# Altium integrated library kbjs-lib.IntLib: 7 symbols
Pins are listed as number, name and electrical type; pins without a type are passive.

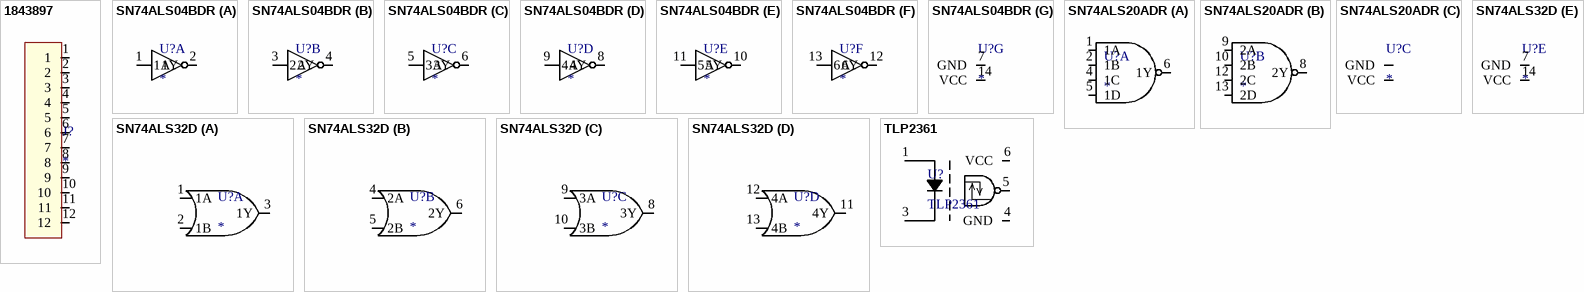
[diagram p0: symbols 1843897 to TLP2361]

## 1843897
designator J?
Feed-through header, 12POS, Combicon Series, Mates w/ 1847220
footprint KSMITH_LIB_1843897
pins: 1, 2, 3, 4, 5, 6, 7, 8, 9, 10, 11, 12

## SN74ALS04BDR
designator U?
Hex Inverter; Supplier 1: Digi-Key; Supplier Part Number 1: 296-1122-1-ND
footprint D14
part A pins: 1 1A, 2 1Y
part B pins: 3 2A, 4 2Y
part C pins: 5 3A, 6 3Y
part D pins: 8 4Y, 9 4A
part E pins: 10 5Y, 11 5A
part F pins: 12 6Y, 13 6A
part G pins: 7 GND, 14 VCC

## SN74ALS20ADR
designator U?
Dual 4-Input Positive-NAND Gates; Supplier 1: Digi-Key; Supplier Part Number 1: 296-5036-1-ND
footprint D14-M
footprint D14
part A pins: 1 1A, 2 1B, 4 1C, 5 1D, 6 1Y
part B pins: 8 2Y, 9 2A, 10 2B, 12 2C, 13 2D
part C pins: 7 GND (power), 14 VCC (power)

## SN74ALS32D
designator U?
Quadruple 2-Input Positive OR Gate; Supplier 1: Digi-Key; Supplier Part Number 1: 296-1127-5-ND
footprint D14
part A pins: 1 1A, 2 1B, 3 1Y
part B pins: 4 2A, 5 2B, 6 2Y
part C pins: 8 3Y, 9 3A, 10 3B
part D pins: 11 4Y, 12 4A, 13 4B
part E pins: 7 GND, 14 VCC

## TLP2361
designator U?
optocoupler, S06 package; Supplier 1: Digi-Key; Supplier 2: Digi-Key; Supplier Part Number 1: TLP2361(V4-TPLECT-ND; Supplier Part Number 2: TLP2361(V4E-ND
footprint 5pin SO6
pins: 1, 3, 4 GND (power), 5, 6 VCC (power)


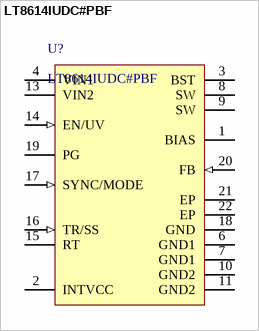
[diagram p1: symbol LT8614IUDC#PBF]

## LT8614IUDC#PBF
designator U?
4 A Synchronous Step-Down Silent Switcher with 2.5 uA Quiescent Current, 3.4 to 42 V, -40 to 125 degC, 18-Pin QFN (UDC), RoHS, Tube; Number of Outputs: 1; VIN Max: 42 V; VIN Min: 3.4 V; ComponentLink2Description: Datasheet; DatasheetVersion: Rev. B; ComponentLink3URL: http://cds.linear.com/docs/en/packaging/05081956_B_UDC18(AA).pdf; ComponentLink3Description: Package Specification; ComponentLink1URL: http://www.linear.com/; ComponentLink1Description: Manufacturer URL; ComponentLink2URL: http://cds.linear.com/docs/en/datasheet/8614fb.pdf; Temperature Min: -40 degC; Packing: Tube; PackageVersion: Rev. B; PartNumber: LT8614IUDC#PBF; PackageDescription: 18-Pin Quad Flat No-lead Package, Body 3 x 4 mm, Pitch 0.5 mm; Mounting Technology: Surface Mount; RoHS: TRUE; Temperature Max: 125 degC
footprint LT-UDC-18_V
pins: 1 BIAS (power) "The internal regulator will draw current from BIAS instead of VIN when BIAS is tied to a voltage higher than 3.1V. For output voltages of 3.3V and above this pin should be tied to VOUT. If this pin is tied to a supply other than VOUT use a 1ìF local bypass capacitor on this pin.", 2 INTVCC (power) "Internal 3.4V Regulator Bypass Pin. The internal power drivers and control circuits are powered from this voltage. INTVCC maximum output current is 20mA. Do not load the INTVCC pin with external circuitry. INTVCC current will be supplied from BIAS if BIAS > 3.1V, otherwise current will be drawn from VIN. Voltage on INTVCC will vary between 2.8V and 3.4V when BIAS is between 3.0V and 3.6V. Decouple this pin to power ground with at least a 1ìF low ESR ceramic capacitor placed close to the IC.", 3 BST "This pin is used to provide a drive voltage, higher than the input voltage, to the topside power switch. Place a 0.1uF boost capacitor as close as possible to the IC.", 4 VIN1 (power) "The LT8614 requires two 1uF small input bypass capacitors. One 1uF capacitor should be placed between VIN1 and GND1. A second 1uF capacitor should be placed between VIN2 and GND2. These capacitors must be placed as close as possible to the LT8614. A third larger capacitor of 2.2uF or more should be placed close to the LT8614 with the positive terminal connected to VIN1 and VIN2, and the negative terminal connected to ground. See applications section for sample layout.", 6 GND1 (power) "Power Switch Ground. These pins are the return path of the internal bottom side power switch and must be tied together. Place the negative terminal of the input capacitor as close to the GND1 pins as possible. Also be sure to tie GND1 to the ground plane. See the Applications Information section for sample layout.", 7 GND1 (power) "Power Switch Ground. These pins are the return path of the internal bottom side power switch and must be tied together. Place the negative terminal of the input capacitor as close to the GND1 pins as possible. Also be sure to tie GND1 to the ground plane. See the Applications Information section for sample layout.", 8 SW (power) "The SW pins are the outputs of the internal power switches. Tie these pins together and connect them to the inductor and boost capacitor. This node should be kept small on the PCB for good performance and low EMI.", 9 SW (power) "The SW pins are the outputs of the internal power switches. Tie these pins together and connect them to the inductor and boost capacitor. This node should be kept small on the PCB for good performance and low EMI.", 10 GND2 (power) "Power Switch Ground. These pins are the return path of the internal bottom side power switch and must be tied together. Place the negative terminal of the input capacitor as close to the GND2 pins as possible. Also be sure to tie GND2 to the ground plane. See the Applications Information section for sample layout.", 11 GND2 (power) "Power Switch Ground. These pins are the return path of the internal bottom side power switch and must be tied together. Place the negative terminal of the input capacitor as close to the GND2 pins as possible. Also be sure to tie GND2 to the ground plane. See the Applications Information section for sample layout.", 13 VIN2 (power) "The LT8614 requires two 1ìF small input bypass capacitors. One 1uF capacitor should be placed between VIN1 and GND1. A second 1uF capacitor should be placed between VIN2 and GND2. These capacitors must be placed as close as possible to the LT8614. A third larger capacitor of 2.2uF or more should be placed close to the LT8614 with the positive terminal connected to VIN1 and VIN2, and the negative terminal connected to ground. See the Applications Information section for sample layout.", 14 EN/UV (in), 15 RT "A resistor is tied between RT and ground to set the switching frequency.", 16 TR/SS (in), 17 SYNC/MODE (in), 18 GND (power) "LT8614 Ground Pin. Connect this pin to system ground and to the ground plane.", 19 PG (hiz) "The PG pin is the open-drain output of an internal comparator. PG remains low until the FB pin is within +/-9% of the final regulation voltage, and there are no fault conditions. PG is valid when VIN is above 3.4V, regardless of EN/UV pin state.", 20 FB (in) "The LT8614 regulates the FB pin to 0.970V. Connect the feedback resistor divider tap to this pin. Also, connect a phase lead capacitor between FB and VOUT. Typically, this capacitor is 4.7pF to 22pF.", 21 EP (power) "The exposed pads should to connected and soldered to the SW trace for good thermal performance. If necessary due to manufacturing limitations Pins 21 and 22 may be left disconnected, however thermal performance will be degraded.", 22 EP (power) "The exposed pads should to connected and soldered to the SW trace for good thermal performance. If necessary due to manufacturing limitations Pins 21 and 22 may be left disconnected, however thermal performance will be degraded."


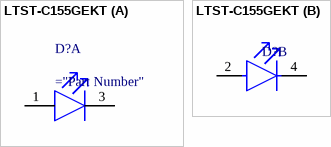
[diagram p2: symbol LTST-C155GEKT]

## LTST-C155GEKT
designator D?  (value not drawn)
LED GREEN/RED CLEAR CHIP SMD
footprint Lite-On_LTST-C155GEKT_0
part A pins: 1 GREEN A, 3 GREEN C
part B pins: 2 RED ORANGE ANODE, 4 RED ORANGE CATHODE